# Altium integrated library STM32L496RxT.IntLib: 1 symbol
Pins are listed as number, name and electrical type; pins without a type are passive.

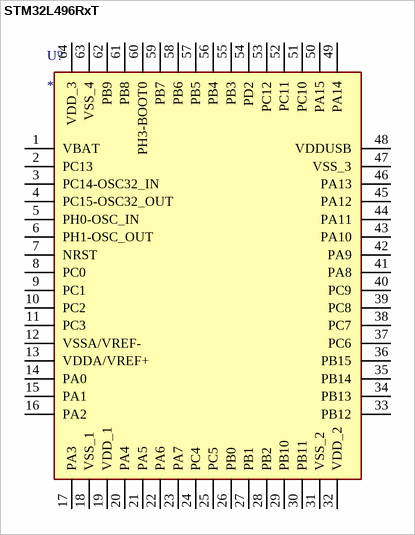
[diagram p0: symbol STM32L496RxT]

## STM32L496RxT
designator U?
Ultra-low-power Arm Cortex-M4 32-bit MCU+FPU, 1MB Flash, 320KB SRAM / L - Low power / R - 64pins / T - LQFP package; ComponentLink1Description: datasheet; ComponentLink1URL: https://www.st.com/resource/en/datasheet/stm32l496vg.pdf; ComponentLink2Description: mouser; ComponentLink2URL: https://www.mouser.es/ProductDetail/STMicroelectronics/STM32L496RET6?qs=Mv7BduZupUin97tyZxJgig%3D%3D
footprint LQFP-64 (dim: 12x12x1.6mm)
pins: 1 VBAT, 2 PC13, 3 PC14-OSC32_IN, 4 PC15-OSC32_OUT, 5 PH0-OSC_IN, 6 PH1-OSC_OUT, 7 NRST, 8 PC0, 9 PC1, 10 PC2, 11 PC3, 12 VSSA/VREF-, 13 VDDA/VREF+, 14 PA0, 15 PA1, 16 PA2, 17 PA3, 18 VSS_1, 19 VDD_1, 20 PA4, 21 PA5, 22 PA6, 23 PA7, 24 PC4, 25 PC5, 26 PB0, 27 PB1, 28 PB2, 29 PB10, 30 PB11, 31 VSS_2, 32 VDD_2, 33 PB12, 34 PB13, 35 PB14, 36 PB15, 37 PC6, 38 PC7, 39 PC8, 40 PC9, 41 PA8, 42 PA9, 43 PA10, 44 PA11, 45 PA12, 46 PA13, 47 VSS_3, 48 VDDUSB, 49 PA14, 50 PA15, 51 PC10, 52 PC11, 53 PC12, 54 PD2, 55 PB3, 56 PB4, 57 PB5, 58 PB6, 59 PB7, 60 PH3-BOOT0, 61 PB8, 62 PB9, 63 VSS_4, 64 VDD_3